# Altium footprint library milliohm-adapter.PcbLib: 10 footprints
Each footprint in its own frame and in the unit in brackets; x right, y up, seen from the top. Pads: shape width x height; smd on the part's side, far side on the other; paste and mask are expansions set on the pad; w line width, h text height; cw(c..) or ccw(c..) is an arc to the next point about the centre after c.
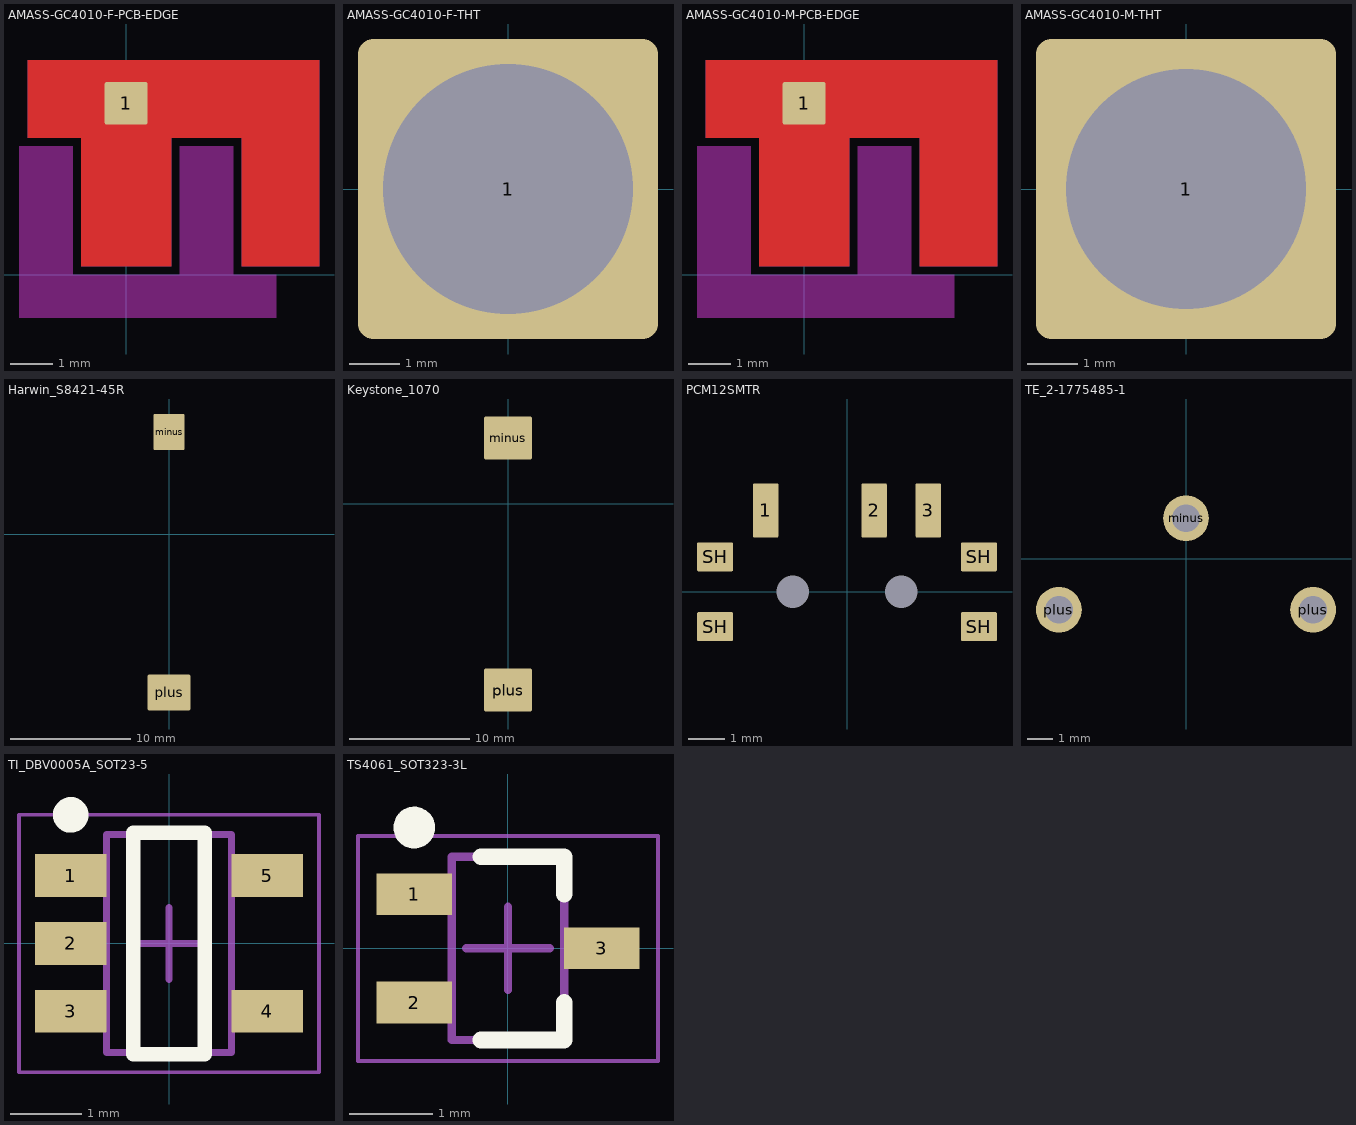
[diagram p0: the footprints below, top view; thin cyan lines are the x and y axes]

## AMASS-GC4010-F-PCB-EDGE [mm]
pads (1):
  rrect10% 1x1 / inner rrect10% 0x0 / far side rrect10% 1x1 all layers, no hole: 1(0,4)
Top Layer:
  region: -2.3,3.2 -2.3,5 4.5,5 4.5,0.2 2.7,0.2 2.7,3.2 1.05,3.2 1.05,0.2 -1.05,0.2 -1.05,3.2
Bottom Layer:
  region: -2.3,3.2 -2.3,5 4.5,5 4.5,0.2 2.7,0.2 2.7,3.2 1.05,3.2 1.05,0.2 -1.05,0.2 -1.05,3.2
Keep-Out Layer:
  board cut-out: -2.5,3 -2.5,0 -2.5,-1 3.5,-1 3.5,0 2.5,0 2.5,3 1.25,3 1.25,0 -1.25,0 -1.25,3
3D body: height 1.7, standoff -3.3, extent -2.5,-17.5 2.5,3

## AMASS-GC4010-F-THT [mm]
pads (1):
  rrect10% 6x6 hole 5: 1(0,0)
3D body: height 19.5, standoff -1, extent -2.5,-2.5 2.5,2.5

## AMASS-GC4010-M-PCB-EDGE [mm]
pads (1):
  rrect10% 1x1 / inner rrect10% 0x0 / far side rrect10% 1x1 all layers, no hole: 1(0,4)
Top Layer:
  region: -2.3,3.2 -2.3,5 4.5,5 4.5,0.2 2.7,0.2 2.7,3.2 1.05,3.2 1.05,0.2 -1.05,0.2 -1.05,3.2
Bottom Layer:
  region: -2.3,3.2 -2.3,5 4.5,5 4.5,0.2 2.7,0.2 2.7,3.2 1.05,3.2 1.05,0.2 -1.05,0.2 -1.05,3.2
Keep-Out Layer:
  board cut-out: -2.5,3 -2.5,0 -2.5,-1 3.5,-1 3.5,0 2.5,0 2.5,3 1.25,3 1.25,0 -1.25,0 -1.25,3
3D body: height 1.6, standoff -3.2, extent -2.4,-16.5 2.4,3

## AMASS-GC4010-M-THT [mm]
pads (1):
  rrect10% 6x6 hole 4.8: 1(0,0)
3D body: height 18.5, standoff -1, extent -2.4,-2.4 2.4,2.4

## Harwin_S8421-45R [mm]
pads (2):
  rrect10% 2.6x3 smd: minus(0,8.5)
  rrect10% 3.6x3 smd: plus(0,-13.2)
3D body "s8421-45r_asm.stp": height 5.3, standoff -0.03, extent -7.798,-13.5 7.798,11.15

## Keystone_1070 [mm]
pads (2):
  rrect10% 4x3.6 smd: minus(0,5.5) plus(0,-15.5)
3D body "keystone-PN1070.STEP": height 5.98, standoff -0.04, extent -10.046,-17.165 10.02,11.191

## PCM12SMTR [mm]
pads (9):
  rrect10% 0.7x1.5 smd: 1(-2.25,2.25) 2(0.75,2.25) 3(2.25,2.25)
  rrect10% 0x0 hole 0.9 unplated: hole(-1.5,0) hole(1.5,0)
  rrect10% 1x0.8 smd: SH(-3.65,-0.965) SH(-3.65,0.965) SH(3.65,-0.965) SH(3.65,0.965)
3D body "PCM12SMTR.stp": height 1.4, standoff -0.5, extent -3.85,-2.8 3.85,2.2

## TE_2-1775485-1 [mm] "CR2032 Battery Holder, Vertical"
pads (3):
  round 1.8 hole 1.1: minus(0,1.6) plus(-5,-2) plus(5,-2)
3D body "c-2-1775485-1-a-3d.stp": height 18.5, standoff -3.59, extent -11.5,-2.9 11.5,2.9

## TI_DBV0005A_SOT23-5 [mm] "SOT23, 5-Leads, Body 2,90x2,80mm, Pitch 0,95mm, IPC Medium Density"
height 1.45
pads (5):
  rect 1x0.6 smd: 1(-1.375,0.95) 2(-1.375,0) 3(-1.375,-0.95) 4(1.375,-0.95) 5(1.375,0.95)
Top Overlay:
  circle w0.25: c-1.375,1.8 r0.125
  lines w0.2: -0.5,-1.55 0.5,-1.55 0.5,1.55 -0.5,1.55 -0.5,-1.55
Mechanical 13:
  lines w0.1: -0.875,-1.525 -0.875,1.525 0.875,1.525 0.875,-1.525 -0.875,-1.525
Mechanical 15:
  lines w0.05: -2.1,-1.8 -2.1,1.8 2.1,1.8 2.1,-1.8 -2.1,-1.8
  lines w0.1: -0.5,0 0.5,0 ; 0,-0.5 0,0.5
3D body "TI_DBV0005A_SOT23-5.step": height 1.45, standoff 0, extent -1.5,-1.525 1.5,1.525

## TS4061_SOT323-3L [mm] "SOT23, 3-Leads, Body 2,00x2,10mm, Pitch 0,65mm, IPC Medium Density"
height 1.1
pads (3):
  rect 0.9x0.5 smd: 1(-1.125,0.65) 2(-1.125,-0.65) 3(1.125,0)
Top Overlay:
  circle w0.25: c-1.125,1.45 r0.125
  lines w0.2: -0.325,-1.1 0.675,-1.1 0.675,-0.65 ; -0.325,1.1 0.675,1.1 0.675,0.65
Mechanical 13:
  lines w0.1: -0.675,-1.1 0.675,-1.1 0.675,1.1 -0.675,1.1 -0.675,-1.1
Mechanical 15:
  lines w0.05: -1.8,-1.35 1.8,-1.35 1.8,1.35 -1.8,1.35 -1.8,-1.35
  lines w0.1: -0.5,0 0.5,0 ; 0,-0.5 0,0.5
3D body "TS4061_SOT323-3L.step": height 1.1, standoff 0, extent -1.3,-1.1 1.3,1.1